# EAGLE library part ESP8266 (library lio)
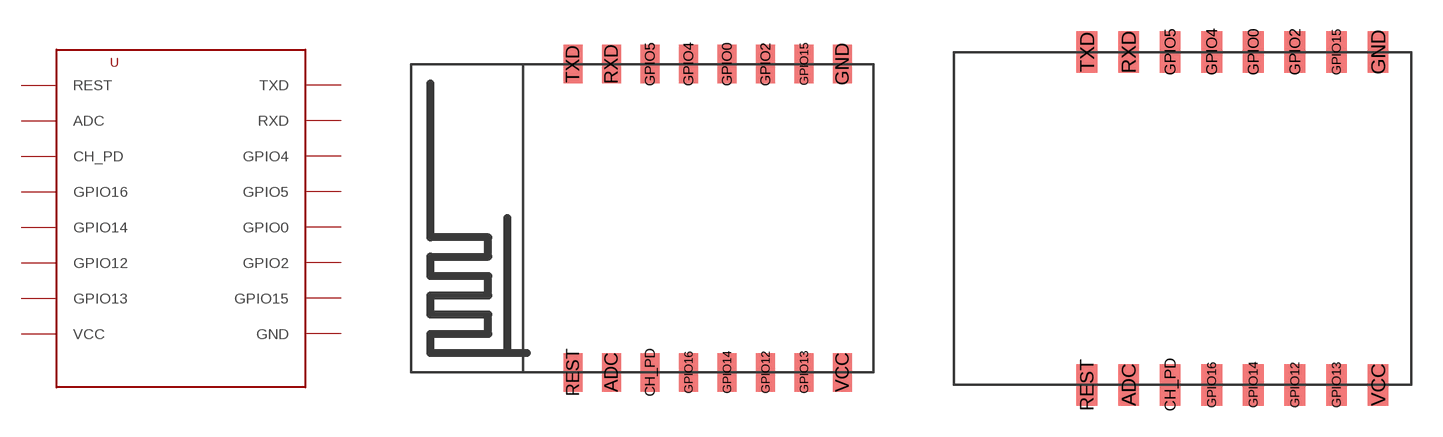
[diagram p8: symbol with the pads of ESP-12; footprints ESP-12, ESP-07]

Designator prefix -

## ESP8266-12  [ESP-12]
ADC  ADC
CH_PD  CH_PD  in
GND  GND  pwr
GPIO0  GPIO0
GPIO2  GPIO2
GPIO4  GPIO4
GPIO5  GPIO5
GPIO12  GPIO12
GPIO13  GPIO13
GPIO14  GPIO14
GPIO15  GPIO15  in
GPIO16  GPIO16
REST  REST
RXD  RXD  in
TXD  TXD  out
VCC  VCC  pwr

## ESP8266-07  [ESP-07]
Pads as for ESP-12

## ESP8266-08  [ESP-08]
Pads as for ESP-12

## Footprint ESP-12 (pad centres in mm)
smd 1 x 2: ADC -1.6,-8; CH_PD 0.4,-8; GND 10.4,8; GPIO0 4.4,8; GPIO2 6.4,8; GPIO4 2.4,8; GPIO5 0.4,8; GPIO12 6.4,-8; GPIO13 8.4,-8; GPIO14 4.4,-8; GPIO15 8.4,8; GPIO16 2.4,-8; REST -3.6,-8; RXD -1.6,8; TXD -3.6,8; VCC 10.4,-8

## Footprint ESP-07 (pad centres in mm)
smd 1 x 2: ADC -1.6,-8; CH_PD 0.4,-8; GND 10.4,8; GPIO0 4.4,8; GPIO2 6.4,8; GPIO4 2.4,8; GPIO5 0.4,8; GPIO12 6.4,-8; GPIO13 8.4,-8; GPIO14 4.4,-8; GPIO15 8.4,8; GPIO16 2.4,-8; REST -3.6,-8; RXD -1.6,8; TXD -3.6,8; VCC 10.4,-8

## Footprint ESP-08 (pad centres in mm)
smd 1 x 2: ADC -1.6,-8; CH_PD 0.4,-8; GND 10.4,8; GPIO0 4.4,8; GPIO2 6.4,8; GPIO4 0.4,8; GPIO5 2.4,8; GPIO12 6.4,-8; GPIO13 8.4,-8; GPIO14 4.4,-8; GPIO15 8.4,8; GPIO16 2.4,-8; REST -3.6,-8; RXD -1.6,8; TXD -3.6,8; VCC 10.4,-8